# Altium schematic symbol library Battery.SchLib: 11 symbols
Pins are listed as number, name and electrical type; pins without a type are passive.

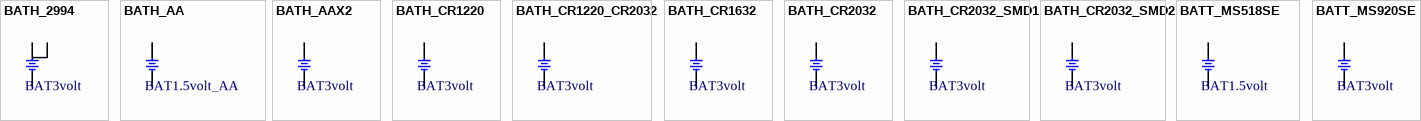
[diagram p0: symbols BATH_2994 to BATT_MS920SE]

## BATH_2994
designator BT?, comment BAT3volt
BATTERY HOLDER, 2994 COIN CELL 4.8MM; MANF_P#: 2994; MANF: KEYSTONE; VALUE: BAT3volt
footprint BTH2994 (BUTTON CELL BATTERY RETAINER 2994)
pins: 1, 2, 2

## BATH_AA
designator BT?, comment BAT1.5volt_AA
BATTERY HOLDER, AA; MANF_P#: Keystone 82; VALUE: BAT1.5volt_AA
footprint BTH_AA (Keystone 82)
footprint BTH_AA_2
pins: 1, 2

## BATH_AAX2
designator BT?, comment BAT3volt
BATTERY HOLDER, AA DUAL; VALUE: BAT3volt; MANF_P#: -
footprint BTH_AAX2 (2-cell AA battery holder)
pins: 1, 2

## BATH_CR1220
designator BT?, comment BAT3volt
BATTERY HOLDER, CR1220; VALUE: BAT3volt; MANF_P#: -
footprint BTH1220 (COIN CELL BATTERY HOLDER 1220 12mm)
pins: 1, 2

## BATH_CR1220_CR2032
designator BT?, comment BAT3volt
BATTERY HOLDER, CR1220/CR2032; VALUE: BAT3volt; MANF_P#: -
footprint BTH1220_2032 (COIN CELL BATTERY HOLDER 1220 12mm CR2032)
pins: 1, 2

## BATH_CR1632
designator BT?, comment BAT3volt
BATTERY HOLDER, CR1632 CR1620 CR1616; MANF_P#: BH600; VALUE: BAT3volt
footprint BTH1632_BH600 (Battery Holder BH600 CR1632 CR1620 CR1616)
pins: 1, 2

## BATH_CR2032
designator BT?, comment BAT3volt
BATTERY HOLDER, CR2032; VALUE: BAT3volt; MANF_P#: -
footprint BTH2032 (CR2032 BATTERY HOLDER)
pins: 1, 2

## BATH_CR2032_SMD1
designator BT?, comment BAT3volt
BATTERY HOLDER, CR2032 SMD; VALUE: BAT3volt; MANF_P#: -
footprint BTH2032_SMD1 (COIN CELL BATTERY HOLDER 2032 20mm KEYSTONE3002)
pins: 1, 2

## BATH_CR2032_SMD2
designator BT?, comment BAT3volt
BATTERY HOLDER, CR2032 SMD; VALUE: BAT3volt; MANF_P#: -
footprint BTH2032_SMD2
pins: 1, 2

## BATT_MS518SE
designator BT?, comment BAT1.5volt
BATTERY HOLDER, MS518SE TS518FE; MANF_P#: MS518SE-FL35E; MANF_P#2: TS518FE-FL35E; MANF: SEIKO; VALUE: BAT1.5volt
footprint BT_TS518FE_FL35E (MS518FE TS518FE FL35E SEIKO BATTERY)
pins: 1, 2

## BATT_MS920SE
designator BT?, comment BAT3volt
BATTERY, Lithium Rechargeable, MS920SE; MANF_P#2: MS920SE-FL27E; MANF: SEIKO; PARAM: Lithium Rechargeable, 11mAh; PARAM2: 3V; VALUE: BAT3volt; MANF_P#: MS920SE
footprint BT_MS920SE (Footprint not found)
pins: 1, 2